# Altium footprint library STM8S103Fx Module.PcbLib: 2 footprints
Each footprint in its own frame and in the unit in brackets; x right, y up, seen from the top. Pads: shape width x height; smd on the part's side, far side on the other; paste and mask are expansions set on the pad; w line width, h text height; cw(c..) or ccw(c..) is an arc to the next point about the centre after c.
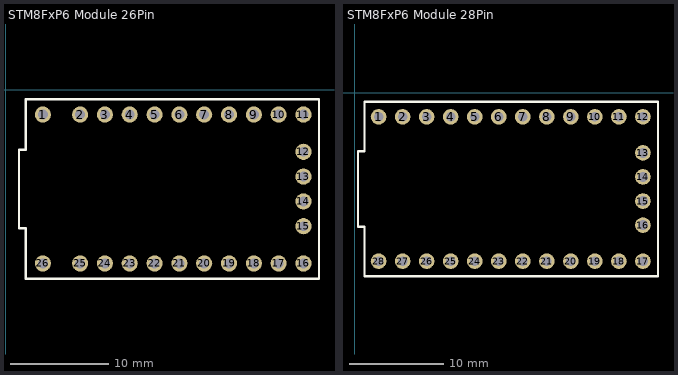
[diagram p0: the footprints below, top view; thin cyan lines are the x and y axes]

## STM8FxP6 Module 26Pin [mil]
pads (26):
  round 65 hole 40: 1(150,-100) 2(300,-100) 3(400,-100) 4(500,-100) 5(600,-100) 6(700,-100) 7(800,-100) 8(900,-100) 9(1000,-100) 10(1100,-100) 11(1200,-100) 12(1200,-250) 13(1200,-350) 14(1200,-450) 15(1200,-550) 16(1200,-700) 17(1100,-700) 18(1000,-700) 19(900,-700) 20(800,-700) 21(700,-700) 22(600,-700) 23(500,-700) 24(400,-700) 25(300,-700) 26(150,-700)
Top Overlay:
  lines w10: 81.03,-762.13 81.03,-557.48 53.84,-557.48 53.84,-242.52 81.03,-242.52 81.03,-37.87 ; 81.4,-762.5 1262.5,-762.5 1262.5,-37.5 81.4,-37.5

## STM8FxP6 Module 28Pin [mil]
pads (28):
  round 65 hole 40: 1(100,-100) 2(200,-100) 3(300,-100) 4(400,-100) 5(500,-100) 6(600,-100) 7(700,-100) 8(800,-100) 9(900,-100) 10(1000,-100) 11(1100,-100) 12(1200,-100) 13(1200,-250) 14(1200,-350) 15(1200,-450) 16(1200,-550) 17(1200,-700) 18(1100,-700) 19(1000,-700) 20(900,-700) 21(800,-700) 22(700,-700) 23(600,-700) 24(500,-700) 25(400,-700) 26(300,-700) 27(200,-700) 28(100,-700)
Top Overlay:
  lines w10: 41.66,-762.13 41.66,-557.48 14.47,-557.48 14.47,-242.52 41.66,-242.52 41.66,-37.87 ; 42.03,-762.5 1262.5,-762.5 1262.5,-37.5 42.03,-37.5